# EAGLE library part SD-RSMT-2-MQ-WF (library Connectors)
CONN SD CARD PUSH-PUSH R/A SMD Manufacturer's datasheet <http://multimedia.3m.com/mws/media/421333O/3mtm-card-connector-sdtm-ts2198.pdf>
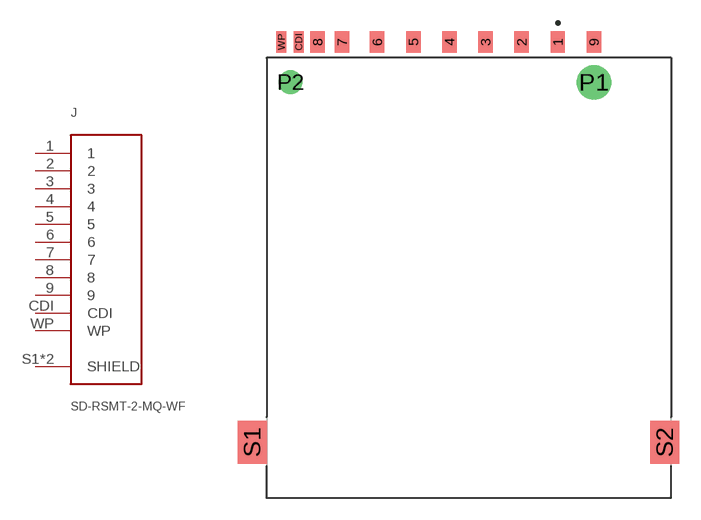
[diagram p14: symbol with the pads of SD-RSMT-2-MQ-WF; footprint SD-RSMT-2-MQ-WF]

Designator prefix J

## SD-RSMT-2-MQ-WF (CREATED_BY: PCBLayout.com; DIGIKEY_PART_NUMBER: 3M5646CT-ND; MANUFACTURER: 3M; MPN: SD-RSMT-2-MQ-WF)  [SD-RSMT-2-MQ-WF]
1  1  pas
2  2  pas
3  3  pas
4  4  pas
5  5  pas
6  6  pas
7  7  pas
8  8  pas
9  9  pas
CDI  CDI  in
S1  SHIELD  pwr
S2  SHIELD  pwr
WP  WP  in

## Footprint SD-RSMT-2-MQ-WF (pad centres in mm)
smd 1 x 1.5: 1 6.88,2.8; 2 4.38,2.8; 3 1.88,2.8; 4 -0.62,2.8; 5 -3.12,2.8; 6 -5.62,2.8; 7 -8.05,2.8; 8 -9.75,2.8; 9 9.38,2.8
smd 0.7 x 1.5: CDI -11.05,2.8; WP -12.25,2.8
drill 1.6: P1 9.38,0
drill 1.1: P2 -11.62,0
smd 2 x 3: S1 -14.28,-24.95; S2 14.28,-24.95